# Altium footprint library Oscillator.PcbLib: 70 footprints (part 4 of 5)
Each footprint in its own frame and in the unit in brackets; x right, y up, seen from the top. Pads: shape width x height; smd on the part's side, far side on the other; paste and mask are expansions set on the pad; w line width, h text height; cw(c..) or ccw(c..) is an arc to the next point about the centre after c.
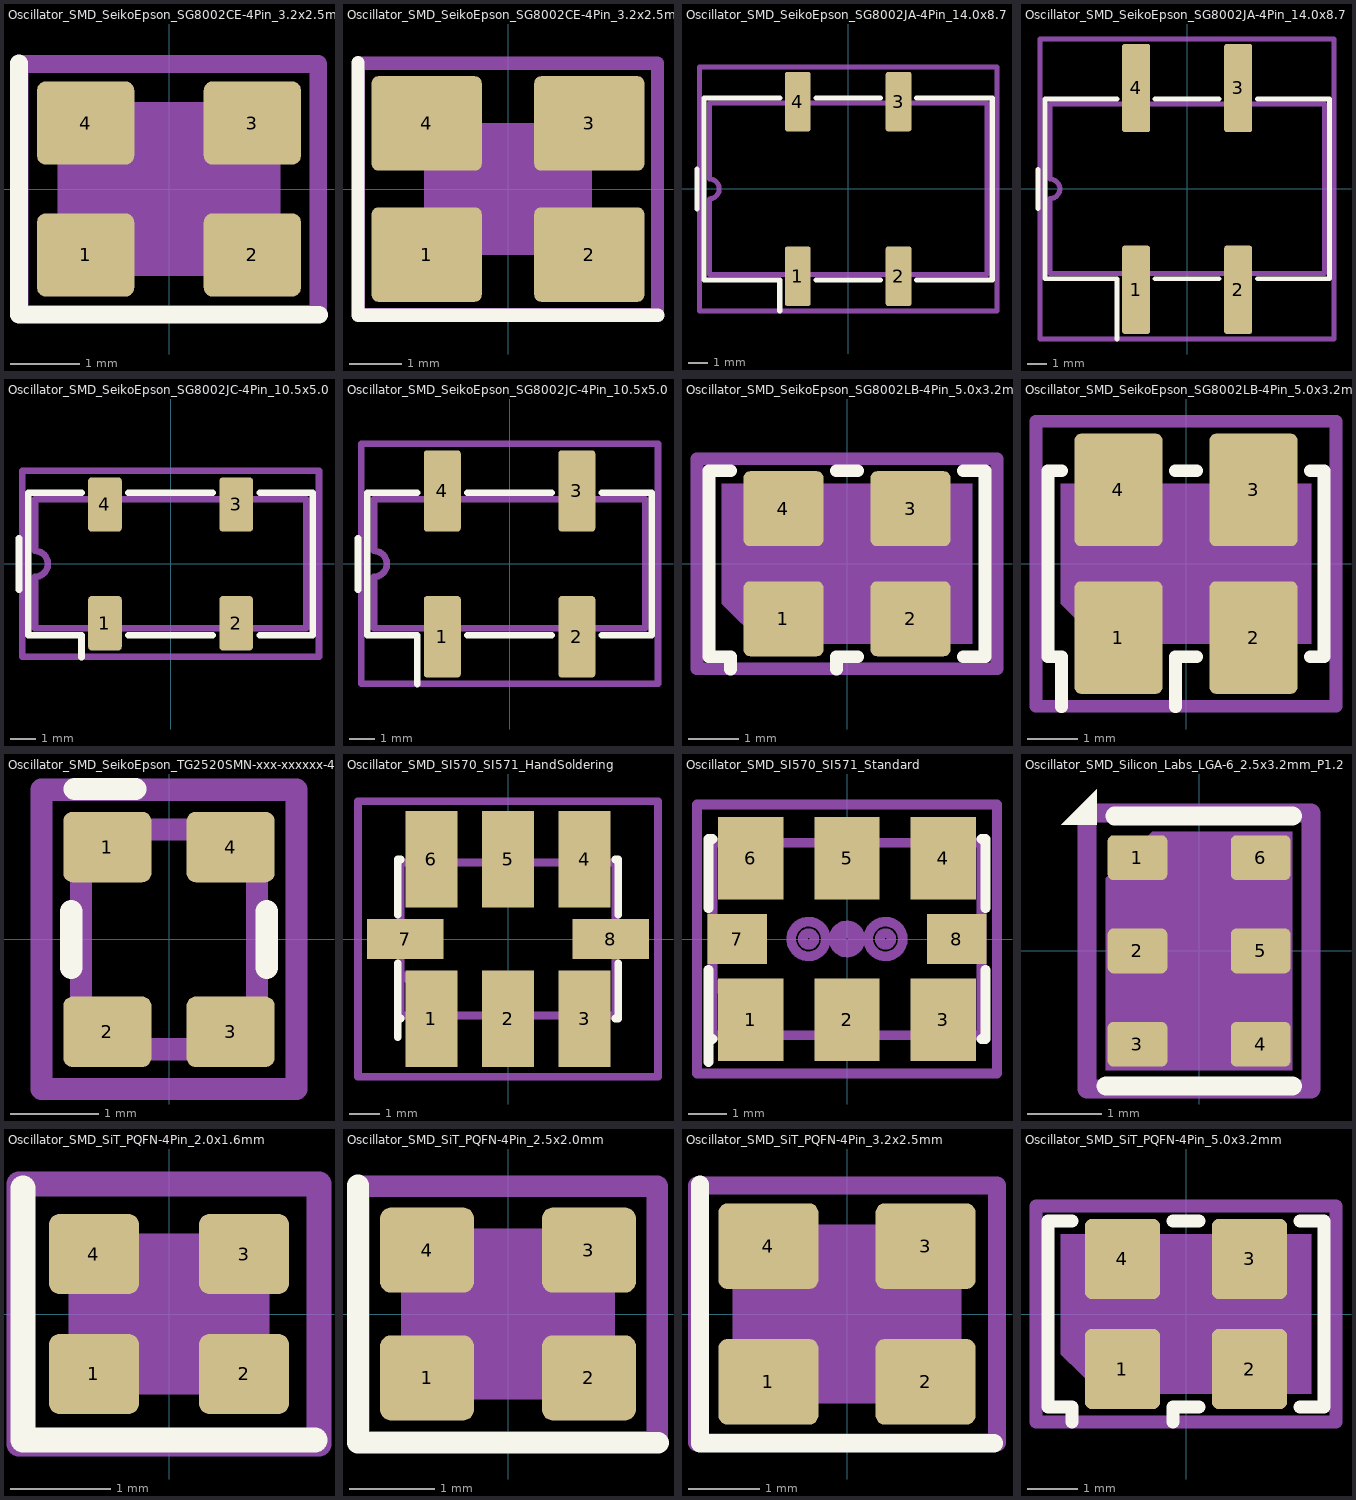
[diagram p3: the footprints below, top view; thin cyan lines are the x and y axes]

## Oscillator_SMD_SeikoEpson_SG8002CE-4Pin_3.2x2.5mm [mm]
pads (4):
  rrect21% 1.4x1.2 smd: 1(-1.2,-0.95) 2(1.2,-0.95) 3(1.2,0.95) 4(-1.2,0.95)
F.SilkS:
  lines w0.254: -2.16,1.81 -2.16,-1.81 2.16,-1.81
Top Assembly:
  region: 1.6,-1.25 -0.975,-1.25 -1.6,-0.625 -1.6,1.25 1.6,1.25
  text "'.Designator'" at -3.237,-0.672 h0.8
Top Courtyard:
  lines w0.254: -2.15,-1.8 2.15,-1.8 2.15,1.8 -2.15,1.8 -2.15,-1.8
Top Designator:
  text ".Designator" at -7.738,-0.508 h1.52
Top Glue Points:
  circle w0.254: c0,0 r0.25

## Oscillator_SMD_SeikoEpson_SG8002CE-4Pin_3.2x2.5mm_HandSoldering [mm]
pads (4):
  rrect14% 2.1x1.8 smd: 1(-1.55,-1.25) 2(1.55,-1.25) 3(1.55,1.25) 4(-1.55,1.25)
F.SilkS:
  lines w0.254: -2.86,2.41 -2.86,-2.41 2.86,-2.41
Top Assembly:
  region: 1.6,-1.25 -0.975,-1.25 -1.6,-0.625 -1.6,1.25 1.6,1.25
  text "'.Designator'" at -3.237,-0.672 h0.8
Top Courtyard:
  lines w0.254: -2.85,-2.4 2.85,-2.4 2.85,2.4 -2.85,2.4 -2.85,-2.4
Top Designator:
  text ".Designator" at -7.738,-0.508 h1.52
Top Glue Points:
  circle w0.254: c0,0 r0.25

## Oscillator_SMD_SeikoEpson_SG8002JA-4Pin_14.0x8.7mm [mm]
pads (4):
  rrect19% 1.3x3 smd: 1(-2.54,-4.4) 2(2.54,-4.4) 3(2.54,4.4) 4(-2.54,4.4)
F.SilkS:
  lines w0.254: -7.62,-1 -7.62,1 ; -3.45,-6.16 -3.45,-4.585 -7.26,-4.585 -7.26,4.585 -3.45,4.585 ; -1.63,-4.585 1.63,-4.585 ; -1.63,4.585 1.63,4.585 ; 3.45,-4.585 7.26,-4.585 7.26,4.585 3.45,4.585
Top Assembly:
  lines w0.254: -7,-4.325 7,-4.325 7,4.325 -7,4.325 -7,0.5 cw(c-7,0) -7,-0.5 -7,-4.325
  text "'.Designator'" at -4.047,-0.84 h1
Top Courtyard:
  lines w0.254: -7.5,-6.15 7.5,-6.15 7.5,6.15 -7.5,6.15 -7.5,-6.15
Top Designator:
  text ".Designator" at -7.678,-0.513 h1.52

## Oscillator_SMD_SeikoEpson_SG8002JA-4Pin_14.0x8.7mm_HandSoldering [mm]
pads (4):
  rrect17% 1.43x4.5 smd: 1(-2.605,-5.15) 2(2.605,-5.15) 3(2.605,5.15) 4(-2.605,5.15)
F.SilkS:
  lines w0.254: -7.62,-1 -7.62,1 ; -3.58,-7.66 -3.58,-4.585 -7.26,-4.585 -7.26,4.585 -3.58,4.585 ; -1.63,-4.585 1.63,-4.585 ; -1.63,4.585 1.63,4.585 ; 3.58,-4.585 7.26,-4.585 7.26,4.585 3.58,4.585
Top Assembly:
  lines w0.254: -7,-4.325 7,-4.325 7,4.325 -7,4.325 -7,0.5 cw(c-7,0) -7,-0.5 -7,-4.325
  text "'.Designator'" at -4.047,-0.84 h1
Top Courtyard:
  lines w0.254: -7.5,-7.65 7.5,-7.65 7.5,7.65 -7.5,7.65 -7.5,-7.65
Top Designator:
  text ".Designator" at -7.678,-0.513 h1.52

## Oscillator_SMD_SeikoEpson_SG8002JC-4Pin_10.5x5.0mm [mm]
pads (4):
  rrect19% 1.3x2.1 smd: 1(-2.54,-2.3) 2(2.54,-2.3) 3(2.54,2.3) 4(-2.54,2.3)
F.SilkS:
  lines w0.254: -5.87,-1 -5.87,1 ; -3.45,-3.61 -3.45,-2.76 -5.51,-2.76 -5.51,2.76 -3.45,2.76 ; -1.63,-2.76 1.63,-2.76 ; -1.63,2.76 1.63,2.76 ; 3.45,-2.76 5.51,-2.76 5.51,2.76 3.45,2.76
Top Assembly:
  lines w0.254: -5.25,-2.5 5.25,-2.5 5.25,2.5 -5.25,2.5 -5.25,0.5 cw(c-5.25,0) -5.25,-0.5 -5.25,-2.5
  text "'.Designator'" at -4.047,-0.84 h1
Top Courtyard:
  lines w0.254: -5.75,-3.6 5.75,-3.6 5.75,3.6 -5.75,3.6 -5.75,-3.6
Top Designator:
  text ".Designator" at -7.678,-0.513 h1.52

## Oscillator_SMD_SeikoEpson_SG8002JC-4Pin_10.5x5.0mm_HandSoldering [mm]
pads (4):
  rrect17% 1.43x3.15 smd: 1(-2.605,-2.825) 2(2.605,-2.825) 3(2.605,2.825) 4(-2.605,2.825)
F.SilkS:
  lines w0.254: -5.87,-1 -5.87,1 ; -3.58,-4.66 -3.58,-2.76 -5.51,-2.76 -5.51,2.76 -3.58,2.76 ; -1.63,-2.76 1.63,-2.76 ; -1.63,2.76 1.63,2.76 ; 3.58,-2.76 5.51,-2.76 5.51,2.76 3.58,2.76
Top Assembly:
  lines w0.254: -5.25,-2.5 5.25,-2.5 5.25,2.5 -5.25,2.5 -5.25,0.5 cw(c-5.25,0) -5.25,-0.5 -5.25,-2.5
  text "'.Designator'" at -4.047,-0.84 h1
Top Courtyard:
  lines w0.254: -5.75,-4.65 5.75,-4.65 5.75,4.65 -5.75,4.65 -5.75,-4.65
Top Designator:
  text ".Designator" at -7.678,-0.513 h1.52

## Oscillator_SMD_SeikoEpson_SG8002LB-4Pin_5.0x3.2mm [mm]
pads (4):
  rrect17% 1.6x1.5 smd: 1(-1.27,-1.1) 2(1.27,-1.1) 3(1.27,1.1) 4(-1.27,1.1)
F.SilkS:
  lines w0.254: -2.33,-2.11 -2.33,-1.86 -2.76,-1.86 -2.76,1.86 -2.33,1.86 ; -0.21,-2.11 -0.21,-1.86 0.21,-1.86 ; -0.21,1.86 0.21,1.86 ; 2.33,-1.86 2.76,-1.86 2.76,1.86 2.33,1.86
Top Assembly:
  region: 2.5,-1.6 -1.7,-1.6 -2.5,-0.8 -2.5,1.6 2.5,1.6
  text "'.Designator'" at -4.047,-0.84 h1
Top Courtyard:
  lines w0.254: -3,-2.1 3,-2.1 3,2.1 -3,2.1 -3,-2.1
Top Designator:
  text ".Designator" at -7.768,-0.513 h1.52
Top Glue Points:
  circle w0.254: c0,0 r0.25

## Oscillator_SMD_SeikoEpson_SG8002LB-4Pin_5.0x3.2mm_HandSoldering [mm]
pads (4):
  rrect14% 1.76x2.25 smd: 1(-1.35,-1.475) 2(1.35,-1.475) 3(1.35,1.475) 4(-1.35,1.475)
F.SilkS:
  lines w0.254: -2.49,-2.86 -2.49,-1.86 -2.76,-1.86 -2.76,1.86 -2.49,1.86 ; -0.21,-2.86 -0.21,-1.86 0.21,-1.86 ; -0.21,1.86 0.21,1.86 ; 2.49,-1.86 2.76,-1.86 2.76,1.86 2.49,1.86
Top Assembly:
  region: 2.5,-1.6 -1.7,-1.6 -2.5,-0.8 -2.5,1.6 2.5,1.6
  text "'.Designator'" at -4.047,-0.84 h1
Top Courtyard:
  lines w0.254: -3,-2.85 3,-2.85 3,2.85 -3,2.85 -3,-2.85
Top Designator:
  text ".Designator" at -7.768,-0.513 h1.52
Top Glue Points:
  circle w0.254: c0,0 r0.25

## Oscillator_SMD_SeikoEpson_TG2520SMN-xxx-xxxxxx-4Pin_2.5x2.0mm [mm]
pads (4):
  rrect25% 1x0.8 smd: 1(-0.7,1.05) 2(-0.7,-1.05) 3(0.7,-1.05) 4(0.7,1.05)
F.SilkS:
  lines w0.254: -1.11,-0.32 -1.11,0.32 ; -1.07,1.71 -0.38,1.71 ; 1.11,-0.32 1.11,0.32
Top Assembly:
  lines w0.254: -1,-1.25 1,-1.25 1,1.25 -0.5,1.25 -1,0.75 -1,-1.25
  text "'.Designator'" at 0.42,-2.023 h0.5
Top Courtyard:
  lines w0.254: -1.45,-1.7 1.45,-1.7 1.45,1.7 -1.45,1.7 -1.45,-1.7
Top Designator:
  text ".Designator" at -7.618,-0.583 h1.52

## Oscillator_SMD_SI570_SI571_HandSoldering [mm]
pads (8):
  rect 1.7x3.15 smd: 1(-2.5,-2.6) 2(0,-2.6) 3(2.5,-2.6) 4(2.5,2.6) 5(0,2.6) 6(-2.5,2.6)
  rect 2.5x1.3 smd: 7(-3.35,0) 8(3.35,0)
F.SilkS:
  lines w0.254: -3.6,-3.2 -3.6,-0.8 ; -3.6,-2.6 -3.5,-2.6 ; -3.6,0.8 -3.6,2.5 -3.6,2.6 -3.5,2.6 ; 3.5,-2.6 3.6,-2.6 3.6,-2.5 3.6,-0.8 ; 3.5,2.6 3.6,2.6 3.6,2.5 3.6,0.8
Top Assembly:
  lines w0.254: -3.5,-1.1 -2.1,-2.5 ; -3.5,-2.5 3.5,-2.5 3.5,2.5 -3.5,2.5 -3.5,-2.5
  text "'.Designator'" at -4.047,-0.84 h1
Top Courtyard:
  lines w0.254: -4.9,-4.5 4.9,-4.5 4.9,4.5 -4.9,4.5 -4.9,-4.5
Top Designator:
  text ".Designator" at -7.618,-0.508 h1.52

## Oscillator_SMD_SI570_SI571_Standard [mm]
pads (8):
  rect 1.7x2.15 smd: 1(-2.5,-2.1) 2(0,-2.1) 3(2.5,-2.1) 4(2.5,2.1) 5(0,2.1) 6(-2.5,2.1)
  rect 1.55x1.3 smd: 7(-2.85,0) 8(2.85,0)
F.SilkS:
  lines w0.254: -3.6,-3.2 -3.6,-0.8 ; -3.6,-2.6 -3.5,-2.6 ; -3.6,0.8 -3.6,2.5 -3.6,2.6 -3.5,2.6 ; 3.5,-2.6 3.6,-2.6 3.6,-2.5 3.6,-0.8 ; 3.5,2.6 3.6,2.6 3.6,2.5 3.6,0.8
Top Assembly:
  lines w0.254: -3.5,-1.1 -2.1,-2.5 ; -3.5,-2.5 3.5,-2.5 3.5,2.5 -3.5,2.5 -3.5,-2.5
  text "'.Designator'" at -4.047,-0.84 h1
Top Courtyard:
  lines w0.254: -3.9,-3.5 3.9,-3.5 3.9,3.5 -3.9,3.5 -3.9,-3.5
Top Designator:
  text ".Designator" at -7.702,-0.508 h1.52
Top Glue Points:
  circle w0.254: c1,0 r0.15
  circle w0.254: c1,0 r0.45
  circle w0.254: c0,0 r0.35
  circle w0.254: c0,0 r0.15
  circle w0.254: c-1,0 r0.45
  circle w0.254: c-1,0 r0.15

## Oscillator_SMD_Silicon_Labs_LGA-6_2.5x3.2mm_P1.25mm [mm]
pads (6):
  rrect25% 0.8x0.6 smd: 1(-0.825,1.25) 2(-0.825,0) 3(-0.825,-1.25) 4(0.825,-1.25) 5(0.825,0) 6(0.825,1.25)
F.SilkS:
  region: -1.37,1.69 -1.85,1.69 -1.37,2.17
  lines w0.254: -1.25,-1.81 1.25,-1.81 ; -1.13,1.81 1.25,1.81
Top Assembly:
  region: 1.25,-1.6 -1.25,-1.6 -1.25,0.975 -0.625,1.6 1.25,1.6
  text "'.Designator'" at 0.672,-3.237 h0.8
Top Courtyard:
  lines w0.254: -1.5,-1.85 1.5,-1.85 1.5,1.85 -1.5,1.85 -1.5,-1.85
Top Designator:
  text ".Designator" at -7.729,-0.628 h1.52

## Oscillator_SMD_SiT_PQFN-4Pin_2.0x1.6mm [mm]
pads (4):
  rrect25% 0.9x0.8 smd: 1(-0.75,-0.6) 2(0.75,-0.6) 3(0.75,0.6) 4(-0.75,0.6)
F.SilkS:
  lines w0.254: -1.46,1.26 -1.46,-1.26 1.46,-1.26
Top Assembly:
  region: 1,-0.8 -0.6,-0.8 -1,-0.4 -1,0.8 1,0.8
  text "'.Designator'" at -2.028,-0.425 h0.5
Top Courtyard:
  lines w0.254: -1.5,-1.3 1.5,-1.3 1.5,1.3 -1.5,1.3 -1.5,-1.3
Top Designator:
  text ".Designator" at -7.698,-0.508 h1.52

## Oscillator_SMD_SiT_PQFN-4Pin_2.5x2.0mm [mm]
pads (4):
  rrect25% 1.1x1 smd: 1(-0.95,-0.75) 2(0.95,-0.75) 3(0.95,0.75) 4(-0.95,0.75)
F.SilkS:
  lines w0.254: -1.76,1.51 -1.76,-1.51 1.76,-1.51
Top Assembly:
  region: 1.25,-1 -0.75,-1 -1.25,-0.5 -1.25,1 1.25,1
  text "'.Designator'" at -2.506,-0.518 h0.62
Top Courtyard:
  lines w0.254: -1.75,-1.5 1.75,-1.5 1.75,1.5 -1.75,1.5 -1.75,-1.5
Top Designator:
  text ".Designator" at -7.708,-0.508 h1.52
Top Glue Points:
  circle w0.254: c0,0 r0.5

## Oscillator_SMD_SiT_PQFN-4Pin_3.2x2.5mm [mm]
pads (4):
  rrect21% 1.4x1.2 smd: 1(-1.1,-0.95) 2(1.1,-0.95) 3(1.1,0.95) 4(-1.1,0.95)
F.SilkS:
  lines w0.254: -2.06,1.81 -2.06,-1.81 2.06,-1.81
Top Assembly:
  region: 1.6,-1.25 -0.975,-1.25 -1.6,-0.625 -1.6,1.25 1.6,1.25
  text "'.Designator'" at -3.237,-0.672 h0.8
Top Courtyard:
  lines w0.254: -2.1,-1.8 2.1,-1.8 2.1,1.8 -2.1,1.8 -2.1,-1.8
Top Designator:
  text ".Designator" at -7.738,-0.508 h1.52
Top Glue Points:
  circle w0.254: c0,0 r0.5

## Oscillator_SMD_SiT_PQFN-4Pin_5.0x3.2mm [mm]
pads (4):
  rrect17% 1.5x1.6 smd: 1(-1.27,-1.1) 2(1.27,-1.1) 3(1.27,1.1) 4(-1.27,1.1)
F.SilkS:
  lines w0.254: -2.28,-2.16 -2.28,-1.86 -2.76,-1.86 -2.76,1.86 -2.28,1.86 ; -0.26,-2.16 -0.26,-1.86 0.26,-1.86 ; -0.26,1.86 0.26,1.86 ; 2.28,-1.86 2.76,-1.86 2.76,1.86 2.28,1.86
Top Assembly:
  region: 2.5,-1.6 -1.7,-1.6 -2.5,-0.8 -2.5,1.6 2.5,1.6
  text "'.Designator'" at -4.047,-0.84 h1
Top Courtyard:
  lines w0.254: -3,-2.16 3,-2.16 3,2.16 -3,2.16 -3,-2.16
Top Designator:
  text ".Designator" at -7.768,-0.508 h1.52
Top Glue Points:
  circle w0.254: c0,0 r0.5